# Altium footprint library COM-16347.PcbLib: 3 footprints
Each footprint in its own frame and in the unit in brackets; x right, y up, seen from the top. Pads: shape width x height; smd on the part's side, far side on the other; paste and mask are expansions set on the pad; w line width, h text height; cw(c..) or ccw(c..) is an arc to the next point about the centre after c.
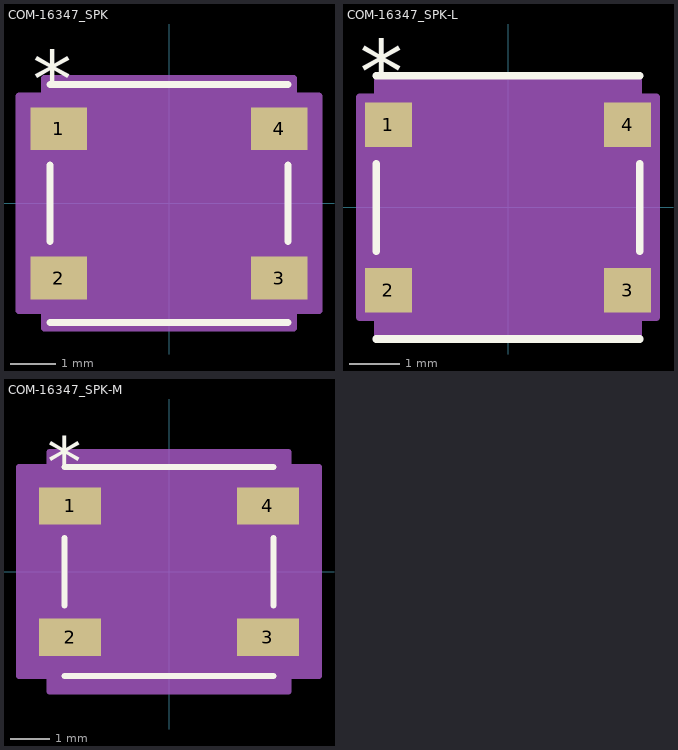
[diagram p0: the footprints below, top view; thin cyan lines are the x and y axes]

## COM-16347_SPK [mil]
pads (4):
  rect 49x37 smd paste+0 mask+0: 1(-96,64.96) 2(-96,-64.96) 3(96,-64.96) 4(96,64.96)
Top Overlay:
  lines w6: -103.5,-103.5 103.5,-103.5 ; -103.5,-33.36 -103.5,33.36 ; -103.5,103.5 103.5,103.5 ; 103.5,-33.36 103.5,33.36
  text "*" at -118.5,83.46 h50
Mechanical 13:
  lines w0: -12,98.5 ccw(c0,98.5) 12,98.5
  lines w1: -106.5,-82.46 -106.5,-47.46 -98.5,-47.46 -98.5,-82.46 -106.5,-82.46 ; -106.5,47.46 -106.5,82.46 -98.5,82.46 -98.5,47.46 -106.5,47.46 ; -98.5,-98.5 98.5,-98.5 98.5,98.5 -98.5,98.5 -98.5,-98.5 ; 98.5,-82.46 98.5,-47.46 106.5,-47.46 106.5,-82.46 98.5,-82.46 ; 98.5,47.46 98.5,82.46 106.5,82.46 106.5,47.46 98.5,47.46
  text "*" at -88.5,51.96 h50
Mechanical 15:
  region: -108.5,-93.46 -130.5,-93.46 -130.5,93.46 -108.5,93.46 -108.5,108.5 108.5,108.5 108.5,93.46 130.5,93.46 130.5,-93.46 108.5,-93.46 108.5,-108.5 -108.5,-108.5
  lines w6: -130.5,-93.46 -130.5,93.46 -108.5,93.46 -108.5,108.5 108.5,108.5 108.5,93.46 130.5,93.46 130.5,-93.46 108.5,-93.46 108.5,-108.5 -108.5,-108.5 -108.5,-93.46 -130.5,-93.46
3D body "COM-16347_SPK.step": height 63.11, standoff 0.11, extent -106.5,-98.5 106.5,98.5

## COM-16347_SPK-L [mil]
pads (4):
  rect 37x35 smd paste+0 mask+0: 1(-94,64.96) 2(-94,-64.96) 3(94,-64.96) 4(94,64.96)
Top Overlay:
  lines w6: -103.5,-103.5 103.5,-103.5 ; -103.5,-34.36 -103.5,34.36 ; -103.5,103.5 103.5,103.5 ; 103.5,-34.36 103.5,34.36
  text "*" at -116.5,82.46 h50
Mechanical 13:
  lines w0: -12,98.5 ccw(c0,98.5) 12,98.5
  lines w1: -106.5,-82.46 -106.5,-47.46 -98.5,-47.46 -98.5,-82.46 -106.5,-82.46 ; -106.5,47.46 -106.5,82.46 -98.5,82.46 -98.5,47.46 -106.5,47.46 ; -98.5,-98.5 98.5,-98.5 98.5,98.5 -98.5,98.5 -98.5,-98.5 ; 98.5,-82.46 98.5,-47.46 106.5,-47.46 106.5,-82.46 98.5,-82.46 ; 98.5,47.46 98.5,82.46 106.5,82.46 106.5,47.46 98.5,47.46
  text "*" at -86.5,49.96 h50
Mechanical 15:
  region: -102.5,-86.46 -116.5,-86.46 -116.5,86.46 -102.5,86.46 -102.5,102.5 102.5,102.5 102.5,86.46 116.5,86.46 116.5,-86.46 102.5,-86.46 102.5,-102.5 -102.5,-102.5
  lines w6: -116.5,-86.46 -116.5,86.46 -102.5,86.46 -102.5,102.5 102.5,102.5 102.5,86.46 116.5,86.46 116.5,-86.46 102.5,-86.46 102.5,-102.5 -102.5,-102.5 -102.5,-86.46 -116.5,-86.46
3D body "COM-16347_SPK.step": height 63.11, standoff 0.11, extent -106.5,-98.5 106.5,98.5

## COM-16347_SPK-M [mil]
pads (4):
  rect 61x37 smd paste+0 mask+0: 1(-98,64.96) 2(-98,-64.96) 3(98,-64.96) 4(98,64.96)
Top Overlay:
  lines w6: -103.5,-103.5 103.5,-103.5 ; -103.5,-33.36 -103.5,33.36 ; -103.5,103.5 103.5,103.5 ; 103.5,-33.36 103.5,33.36
  text "*" at -120.5,83.46 h50
Mechanical 13:
  lines w0: -12,98.5 ccw(c0,98.5) 12,98.5
  lines w1: -106.5,-82.46 -106.5,-47.46 -98.5,-47.46 -98.5,-82.46 -106.5,-82.46 ; -106.5,47.46 -106.5,82.46 -98.5,82.46 -98.5,47.46 -106.5,47.46 ; -98.5,-98.5 98.5,-98.5 98.5,98.5 -98.5,98.5 -98.5,-98.5 ; 98.5,-82.46 98.5,-47.46 106.5,-47.46 106.5,-82.46 98.5,-82.46 ; 98.5,47.46 98.5,82.46 106.5,82.46 106.5,47.46 98.5,47.46
  text "*" at -90.5,51.96 h50
Mechanical 15:
  region: -118.5,-103.46 -148.5,-103.46 -148.5,103.46 -118.5,103.46 -118.5,118.5 118.5,118.5 118.5,103.46 148.5,103.46 148.5,-103.46 118.5,-103.46 118.5,-118.5 -118.5,-118.5
  lines w6: -148.5,-103.46 -148.5,103.46 -118.5,103.46 -118.5,118.5 118.5,118.5 118.5,103.46 148.5,103.46 148.5,-103.46 118.5,-103.46 118.5,-118.5 -118.5,-118.5 -118.5,-103.46 -148.5,-103.46
3D body "COM-16347_SPK.step": height 63.11, standoff 0.11, extent -106.5,-98.5 106.5,98.5